# EAGLE library part 6 (library con)
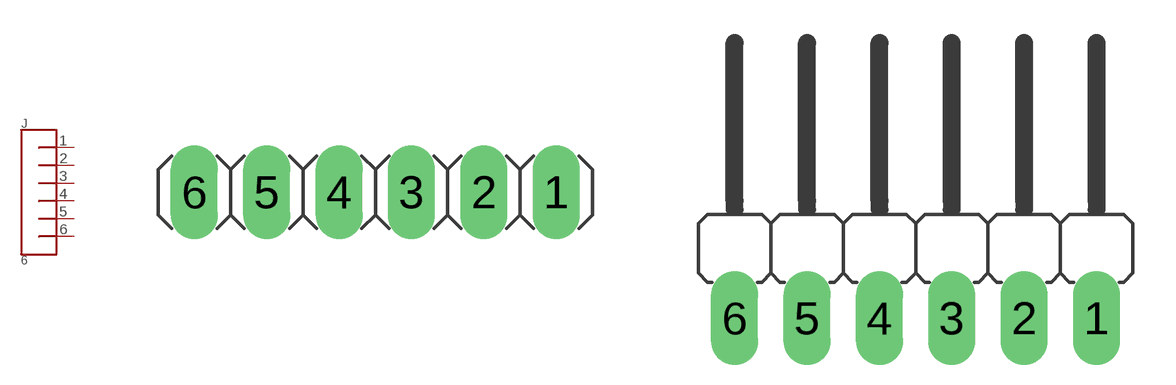
[diagram p0: symbol with the pads of CV6; footprints CV6, CV6W]

Designator prefix J

## 6-CV  [CV6]
1  1
2  2
3  3
4  4
5  5
6  6

## 6-CVW  [CV6W]
Pads as for CV6

## 6-CV_X2  [CV3X2]
Pads as for CV6

## Footprint CV6 (pad centres in mm)
drill 1.1 long: 1 6.35,0; 2 3.81,0; 3 1.27,0; 4 -1.27,0; 5 -3.81,0; 6 -6.35,0

## Footprint CV6W (pad centres in mm)
drill 1.1 long: 1 6.35,0; 2 3.81,0; 3 1.27,0; 4 -1.27,0; 5 -3.81,0; 6 -6.35,0

## Footprint CV3X2 (pad centres in mm)
drill 1.1 square: 1 2.54,1.27
drill 1.1 octagon: 2 2.54,-1.27; 3 0,1.27; 4 0,-1.27; 5 -2.54,1.27; 6 -2.54,-1.27